# Altium schematic symbol library lm317.SchLib: 1 symbol
Pins are listed as number, name and electrical type; pins without a type are passive.

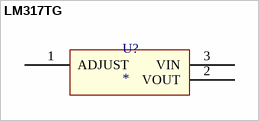
[diagram p0: symbol LM317TG]

## LM317TG
designator U?
Imported; Manufacturer_Part_Number: LM317TG; Vendor: ON Semiconductor; Built_By: EMA_UL_Team; C: Copyright (C) 2015 Accelerated Designs. All rights reserved; Value: Value; Type: Type; RefDes: RefDes
footprint TO-220AB
pins: 1 ADJUST, 2 VOUT (power), 3 VIN (power)